# Altium schematic symbol library STM32WLE5JXXX.SchLib: 1 symbol
Pins are listed as number, name and electrical type; pins without a type are passive.

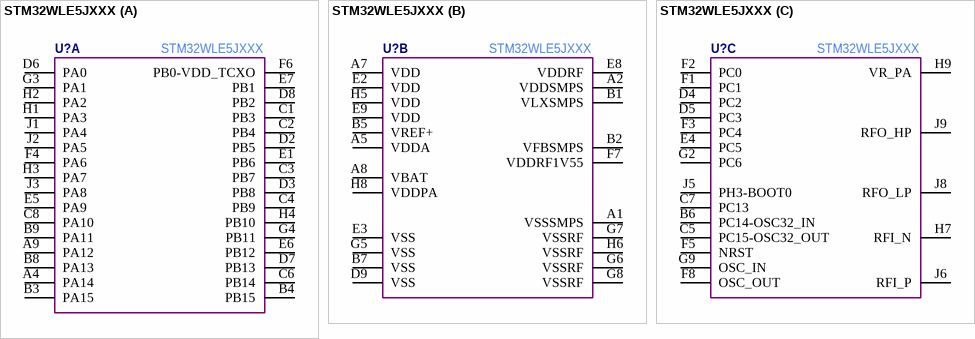
[diagram p0: symbol STM32WLE5JXXX]

## STM32WLE5JXXX
designator U?
Manufacturer Part Number: STM32WLE5JXXX
part A pins: A4 PA14, A9 PA12, B3 PA15, B4 PB15, B8 PA13, B9 PA11, C1 PB3, C2 PB4, C3 PB7, C4 PB9, C6 PB14, C8 PA10, D2 PB5, D3 PB8, D6 PA0, D7 PB13, D8 PB2, E1 PB6, E5 PA9, E6 PB12, E7 PB1, F4 PA6, F6 PB0-VDD_TCXO, G3 PA1, G4 PB11, H1 PA3, H2 PA2, H3 PA7, H4 PB10, J1 PA4, J2 PA5, J3 PA8
part B pins: A1 VSSSMPS, A2 VDDSMPS, A5 VDDA, A7 VDD, A8 VBAT, B1 VLXSMPS, B2 VFBSMPS, B5 VREF+, B7 VSS, D9 VSS, E2 VDD, E3 VSS, E8 VDDRF, E9 VDD, F7 VDDRF1V55, G5 VSS, G6 VSSRF, G7 VSSRF, G8 VSSRF, H5 VDD, H6 VSSRF, H8 VDDPA
part C pins: B6 PC14-OSC32_IN, C5 PC15-OSC32_OUT, C7 PC13, D4 PC2, D5 PC3, E4 PC5, F1 PC1, F2 PC0, F3 PC4, F5 NRST, F8 OSC_OUT, G2 PC6, G9 OSC_IN, H7 RFI_N, H9 VR_PA, J5 PH3-BOOT0, J6 RFI_P, J8 RFO_LP, J9 RFO_HP